# EAGLE library part OS103011MS8QP1C (library OS103011MS8QP1C)
Slide Switches .1A 12VDC SP3T MINI SLIDE Source: Datasheet <https://www.mouser.com/datasheet/2/60/os-1382783.pdf>
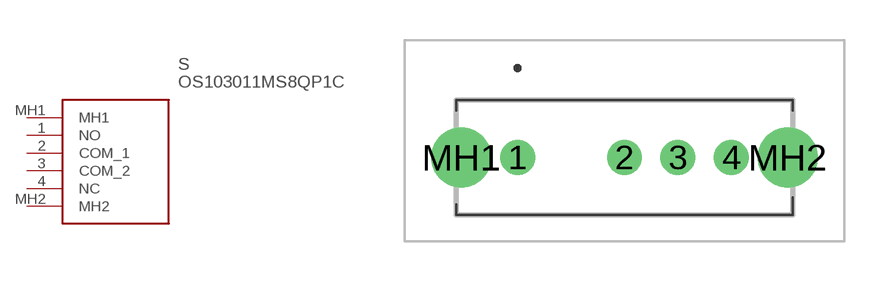
[diagram p0: symbol with the pads of OS103011MS8QP1C; footprint OS103011MS8QP1C]

Designator prefix S

## OS103011MS8QP1C (Arrow_Part_Number: OS103011MS8QP1C; Arrow_Price-Stock: https://www.arrow.com/en/products/os103011ms8qp1c/ck?region=europe; Description: Slide Switches .1A 12VDC SP3T MINI SLIDE; Height: 8.7mm; Manufacturer_Name: C & K COMPONENTS; Manufacturer_Part_Number: OS103011MS8QP1C; Mouser_Part_Number: 611-OS103011MS8QP1C; Mouser_Price-Stock: https://www.mouser.co.uk/ProductDetail/CK/OS103011MS8QP1C?qs=RHLK7eRW6AERXHXtlIQZ1Q%3D%3D)  [OS103011MS8QP1C]
1  NO
2  COM_1
3  COM_2
4  NC  nc
MH1  MH1
MH2  MH2

## Footprint OS103011MS8QP1C (pad centres in mm)
OS103011MS8QP1C-2
drill 0.8 pad 1.3: 1 0,0; 2 4,0; 3 6,0; 4 8,0
drill 1.5 pad 2.25: MH1 -2.1,0; MH2 10.1,0